# Altium integrated library Xilinx Aerospace and Defense.IntLib: 197 symbols (part 38 of 56)
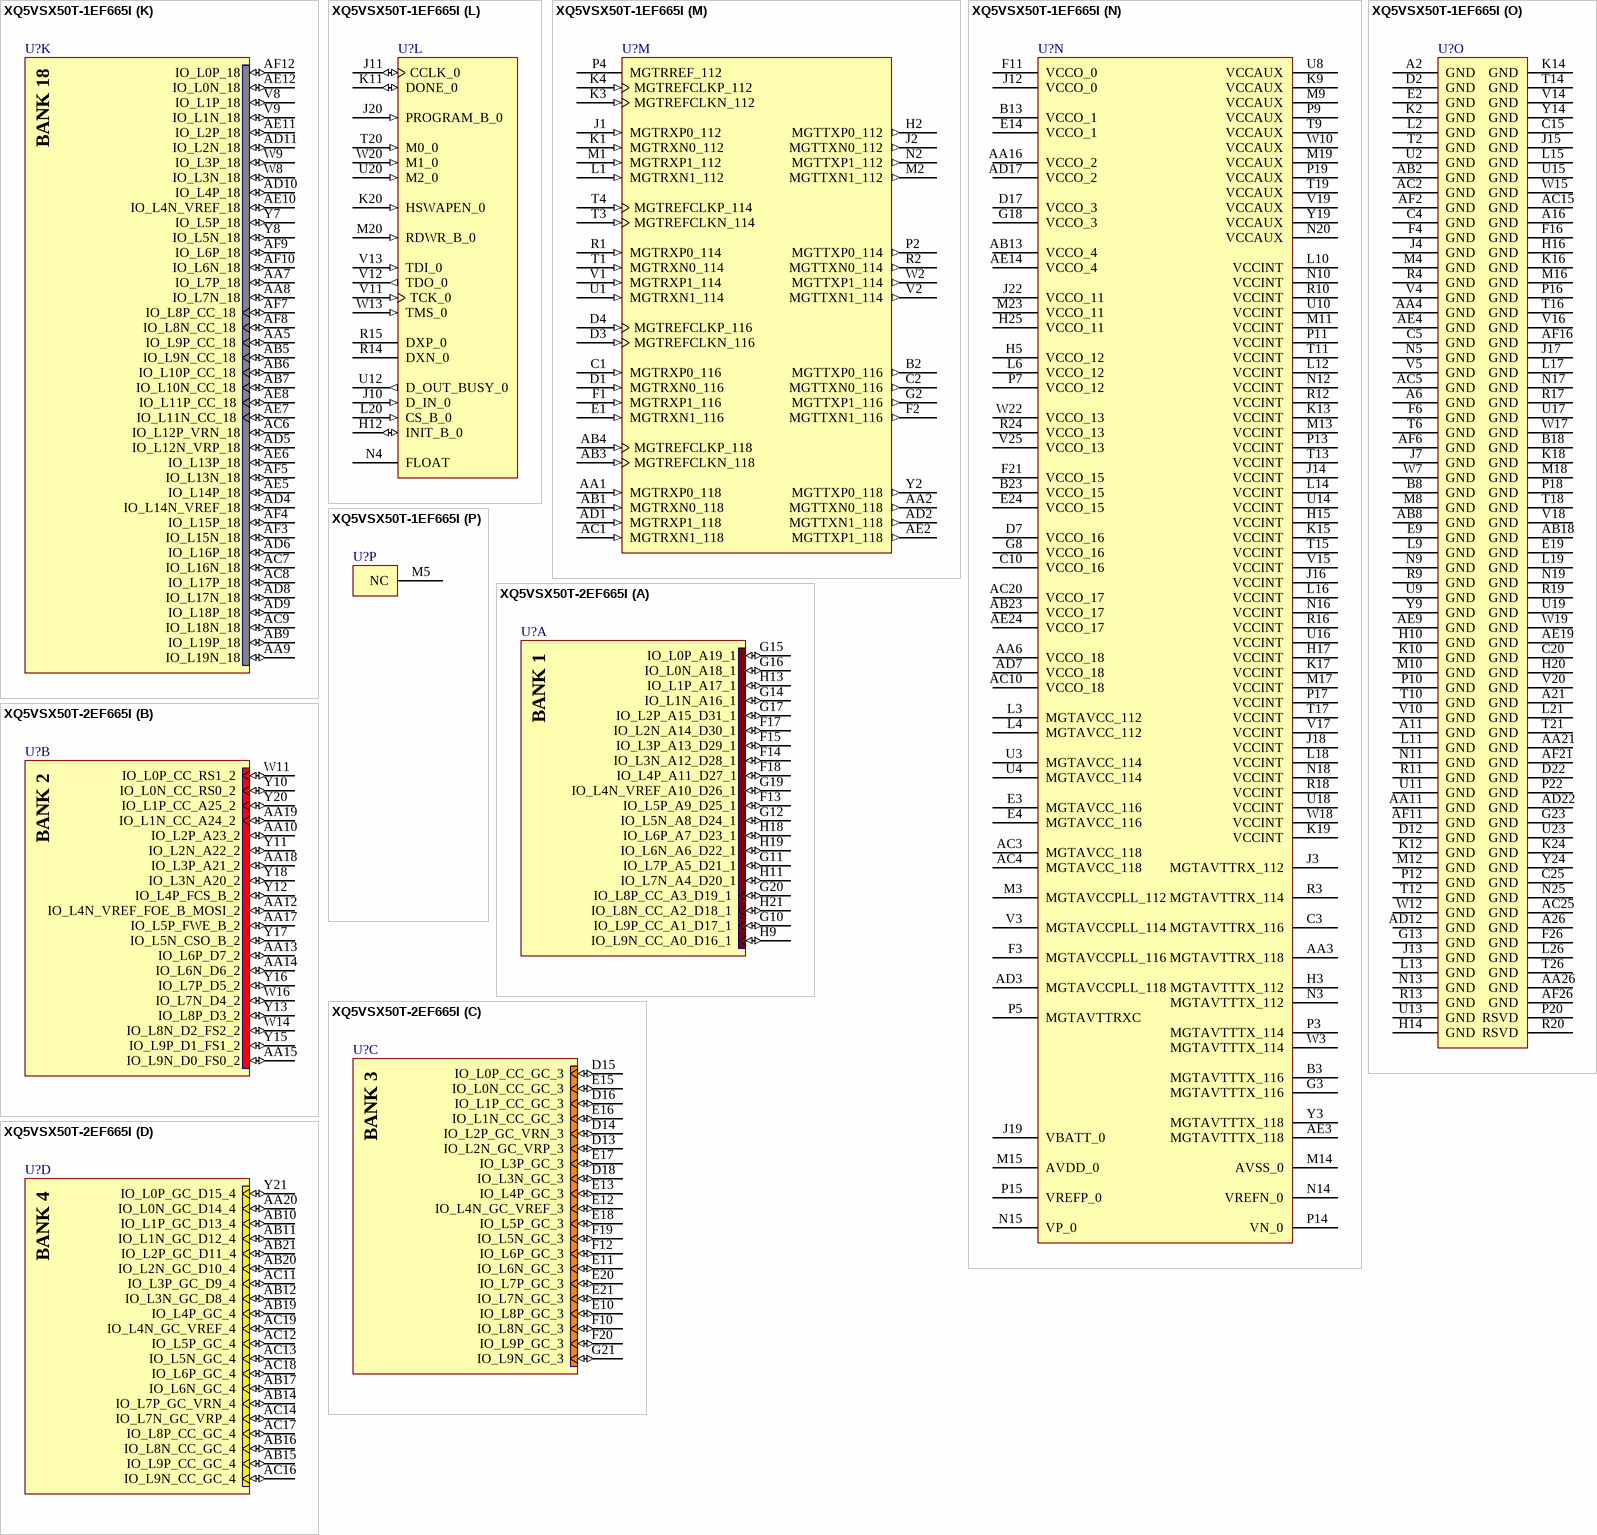
[diagram p347: symbols XQ5VSX50T-1EF665I to XQ5VSX50T-2EF665I]

## XQ5VSX50T-1EF665I
designator U?
Virtex-5Q SXT Platform FPGA, 360 User I/Os, 665-Ball EFBGA, Speed Grade 1, Industrial Grade; Note: Do not connect a single-ended clock to the N-side of clock capable pins (CC & GC pins).; Published: 17-Nov-2009; LatestRevisionDate: 01-Mar-2010; LatestRevisionNote: Updated to datasheet version 1.1 Dec-2009.; DatasheetVersion: ver1.1, Dec-2009; PackageVersion: ver1.1, Aug-2009; PackageReference: EF665; Publisher: Altium Limited; PackageDescription: 665-Ball Flip Chip Ball Grid Array (EF665); Code_JEDEC: MS-034-AAL-1 (Depopulated); ComponentLink1Description: Virtex-5Q Datasheet; ComponentLink1URL: http://www.xilinx.com/support/documentation/data_sheets/ds174.pdf; ComponentLink2Description: Pinout Specification; ComponentLink2URL: http://direct.xilinx.com/bvdocs/userguides/ug195.pdf; ComponentLink3Description: EF665 Package Drawing; ComponentLink3URL: http://www.xilinx.com/support/documentation/package_specs/ef665.pdf; ComponentLink4Description: Virtex-5Q Documents; ComponentLink4URL: http://www.xilinx.com/support/documentation/virtex-5q.htm; ComponentLink5Description: Xilinx.com Home; ComponentLink5URL: http://www.xilinx.com
footprint EF665 (BGA, 665-Leads, Body 27x27mm, Pitch 1mm)
signal-integrity model XQ5VSX50T_EF665 (Virtex-5Q)
part A pins: F13 IO_L5P_A9_D25_1 (io), F14 IO_L3N_A12_D28_1 (io), F15 IO_L3P_A13_D29_1 (io), F17 IO_L2N_A14_D30_1 (io), F18 IO_L4P_A11_D27_1 (io), G10 IO_L9P_CC_A1_D17_1 (io), G11 IO_L7P_A5_D21_1 (io), G12 IO_L5N_A8_D24_1 (io), G14 IO_L1N_A16_1 (io), G15 IO_L0P_A19_1 (io), G16 IO_L0N_A18_1 (io), G17 IO_L2P_A15_D31_1 (io), G19 IO_L4N_VREF_A10_D26_1 (io), G20 IO_L8P_CC_A3_D19_1 (io), H9 IO_L9N_CC_A0_D16_1 (io), H11 IO_L7N_A4_D20_1 (io), H13 IO_L1P_A17_1 (io), H18 IO_L6P_A7_D23_1 (io), H19 IO_L6N_A6_D22_1 (io), H21 IO_L8N_CC_A2_D18_1 (io)
part B pins: AA10 IO_L2P_A23_2 (io), AA12 IO_L4N_VREF_FOE_B_MOSI_2 (io), AA13 IO_L6P_D7_2 (io), AA14 IO_L6N_D6_2 (io), AA15 IO_L9N_D0_FS0_2 (io), AA17 IO_L5P_FWE_B_2 (io), AA18 IO_L3P_A21_2 (io), AA19 IO_L1N_CC_A24_2 (io), W11 IO_L0P_CC_RS1_2 (io), W14 IO_L8N_D2_FS2_2 (io), W16 IO_L7N_D4_2 (io), Y10 IO_L0N_CC_RS0_2 (io), Y11 IO_L2N_A22_2 (io), Y12 IO_L4P_FCS_B_2 (io), Y13 IO_L8P_D3_2 (io), Y15 IO_L9P_D1_FS1_2 (io), Y16 IO_L7P_D5_2 (io), Y17 IO_L5N_CSO_B_2 (io), Y18 IO_L3N_A20_2 (io), Y20 IO_L1P_CC_A25_2 (io)
part C pins: D13 IO_L2N_GC_VRP_3 (io), D14 IO_L2P_GC_VRN_3 (io), D15 IO_L0P_CC_GC_3 (io), D16 IO_L1P_CC_GC_3 (io), D18 IO_L3N_GC_3 (io), E10 IO_L8P_GC_3 (io), E11 IO_L6N_GC_3 (io), E12 IO_L4N_GC_VREF_3 (io), E13 IO_L4P_GC_3 (io), E15 IO_L0N_CC_GC_3 (io), E16 IO_L1N_CC_GC_3 (io), E17 IO_L3P_GC_3 (io), E18 IO_L5P_GC_3 (io), E20 IO_L7P_GC_3 (io), E21 IO_L7N_GC_3 (io), F10 IO_L8N_GC_3 (io), F12 IO_L6P_GC_3 (io), F19 IO_L5N_GC_3 (io), F20 IO_L9P_GC_3 (io), G21 IO_L9N_GC_3 (io)
part D pins: AA20 IO_L0N_GC_D14_4 (io), AB10 IO_L1P_GC_D13_4 (io), AB11 IO_L1N_GC_D12_4 (io), AB12 IO_L3N_GC_D8_4 (io), AB14 IO_L7P_GC_VRN_4 (io), AB15 IO_L9P_CC_GC_4 (io), AB16 IO_L8N_CC_GC_4 (io), AB17 IO_L6N_GC_4 (io), AB19 IO_L4P_GC_4 (io), AB20 IO_L2N_GC_D10_4 (io), AB21 IO_L2P_GC_D11_4 (io), AC11 IO_L3P_GC_D9_4 (io), AC12 IO_L5P_GC_4 (io), AC13 IO_L5N_GC_4 (io), AC14 IO_L7N_GC_VRP_4 (io), AC16 IO_L9N_CC_GC_4 (io), AC17 IO_L8P_CC_GC_4 (io), AC18 IO_L6P_GC_4 (io), AC19 IO_L4N_GC_VREF_4 (io), Y21 IO_L0P_GC_D15_4 (io)
part E pins: E22 IO_L4N_VREF_11 (io), E23 IO_L4P_11 (io), E25 IO_L0N_11 (io), E26 IO_L0P_11 (io), F22 IO_L5N_11 (io), F23 IO_L5P_11 (io), F24 IO_L3P_11 (io), F25 IO_L1P_11 (io), G22 IO_L6P_11 (io), G24 IO_L3N_11 (io), G25 IO_L2N_11 (io), G26 IO_L1N_11 (io), H22 IO_L6N_11 (io), H23 IO_L7P_11 (io), H24 IO_L12P_VRN_11 (io), H26 IO_L2P_11 (io), J21 IO_L8P_CC_11 (io), J23 IO_L7N_11 (io), J24 IO_L12N_VRP_11 (io), J25 IO_L13P_11 (io), J26 IO_L13N_11 (io), K21 IO_L8N_CC_11 (io), K22 IO_L9P_CC_11 (io), K23 IO_L9N_CC_11 (io), K25 IO_L15N_SM13N_11 (io), K26 IO_L14P_11 (io), L22 IO_L10N_CC_SM15N_11 (io), L23 IO_L10P_CC_SM15P_11 (io), L24 IO_L15P_SM13P_11 (io), L25 IO_L14N_VREF_11 (io), M21 IO_L11P_CC_SM14P_11 (io), M22 IO_L19N_SM9N_11 (io), M24 IO_L17N_SM11N_11 (io), M25 IO_L17P_SM11P_11 (io), M26 IO_L16N_SM12N_11 (io), N21 IO_L11N_CC_SM14N_11 (io), N22 IO_L19P_SM9P_11 (io), N23 IO_L18N_SM10N_11 (io), N24 IO_L18P_SM10P_11 (io), N26 IO_L16P_SM12P_11 (io)
part F pins: F5 IO_L3N_12 (io), G4 IO_L5P_12 (io), G5 IO_L3P_12 (io), G6 IO_L1P_12 (io), H4 IO_L5N_12 (io), H6 IO_L1N_12 (io), J5 IO_L7P_12 (io), J6 IO_L7N_12 (io), K5 IO_L9P_CC_12 (io), K6 IO_L10P_CC_12 (io), K7 IO_L10N_CC_12 (io), K8 IO_L12P_VRN_12 (io), L5 IO_L9N_CC_12 (io), L7 IO_L12N_VRP_12 (io), L8 IO_L14N_VREF_12 (io), M6 IO_L17P_12 (io), M7 IO_L14P_12 (io), N6 IO_L16N_12 (io), N7 IO_L17N_12 (io), N8 IO_L18P_12 (io), P6 IO_L16P_12 (io), P8 IO_L18N_12 (io), R5 IO_L13N_12 (io), R6 IO_L15P_12 (io), R7 IO_L19N_12 (io), R8 IO_L19P_12 (io), T5 IO_L13P_12 (io), T7 IO_L15N_12 (io), T8 IO_L8N_CC_12 (io), U5 IO_L11N_CC_12 (io), U6 IO_L11P_CC_12 (io), U7 IO_L8P_CC_12 (io), V6 IO_L6P_12 (io), V7 IO_L6N_12 (io), W4 IO_L2N_12 (io), W5 IO_L4P_12 (io), W6 IO_L4N_VREF_12 (io), Y4 IO_L2P_12 (io), Y5 IO_L0N_12 (io), Y6 IO_L0P_12 (io)
part G pins: AA22 IO_L10P_CC_13 (io), AA23 IO_L15N_13 (io), AA24 IO_L14N_VREF_13 (io), AA25 IO_L13P_13 (io), AB24 IO_L15P_13 (io), AB25 IO_L14P_13 (io), AB26 IO_L13N_13 (io), P21 IO_L16P_13 (io), P23 IO_L2N_SM6N_13 (io), P24 IO_L2P_SM6P_13 (io), P25 IO_L1P_SM7P_13 (io), P26 IO_L0P_SM8P_13 (io), R21 IO_L16N_13 (io), R22 IO_L3N_SM5N_13 (io), R23 IO_L3P_SM5P_13 (io), R25 IO_L1N_SM7N_13 (io), R26 IO_L0N_SM8N_13 (io), T22 IO_L17P_13 (io), T23 IO_L6N_SM3N_13 (io), T24 IO_L6P_SM3P_13 (io), T25 IO_L5N_SM4N_13 (io), U21 IO_L18P_13 (io), U22 IO_L17N_13 (io), U24 IO_L7P_SM2P_13 (io), U25 IO_L5P_SM4P_13 (io), U26 IO_L4P_13 (io), V21 IO_L19P_13 (io), V22 IO_L18N_13 (io), V23 IO_L9N_CC_SM0N_13 (io), V24 IO_L7N_SM2N_13 (io), V26 IO_L4N_VREF_13 (io), W21 IO_L19N_13 (io), W23 IO_L11N_CC_13 (io), W24 IO_L9P_CC_SM0P_13 (io), W25 IO_L8N_CC_SM1N_13 (io), W26 IO_L8P_CC_SM1P_13 (io), Y22 IO_L10N_CC_13 (io), Y23 IO_L11P_CC_13 (io), Y25 IO_L12N_VRP_13 (io), Y26 IO_L12P_VRN_13 (io)
part H pins: A13 IO_L1N_15 (io), A14 IO_L2P_15 (io), A15 IO_L2N_15 (io), A17 IO_L5N_15 (io), A18 IO_L6P_15 (io), A19 IO_L6N_15 (io), A20 IO_L8P_CC_15 (io), A22 IO_L13N_15 (io), A23 IO_L14P_15 (io), A24 IO_L14N_VREF_15 (io), A25 IO_L17N_15 (io), B14 IO_L1P_15 (io), B15 IO_L3P_15 (io), B16 IO_L4P_15 (io), B17 IO_L5P_15 (io), B19 IO_L7P_15 (io), B20 IO_L8N_CC_15 (io), B21 IO_L11P_CC_15 (io), B22 IO_L13P_15 (io), B24 IO_L15P_15 (io), B25 IO_L17P_15 (io), B26 IO_L18P_15 (io), C13 IO_L0P_15 (io), C14 IO_L0N_15 (io), C16 IO_L3N_15 (io), C17 IO_L4N_VREF_15 (io), C18 IO_L7N_15 (io), C19 IO_L9P_CC_15 (io), C21 IO_L11N_CC_15 (io), C22 IO_L12N_VRP_15 (io), C23 IO_L15N_15 (io), C24 IO_L16N_15 (io), C26 IO_L18N_15 (io), D19 IO_L9N_CC_15 (io), D20 IO_L10N_CC_15 (io), D21 IO_L10P_CC_15 (io), D23 IO_L12P_VRN_15 (io), D24 IO_L16P_15 (io), D25 IO_L19N_15 (io), D26 IO_L19P_15 (io)
part I pins: A3 IO_L14N_VREF_16 (io), A4 IO_L14P_16 (io), A5 IO_L12N_VRP_16 (io), A7 IO_L10P_CC_16 (io), A8 IO_L4N_VREF_16 (io), A9 IO_L4P_16 (io), A10 IO_L13N_16 (io), A12 IO_L15N_16 (io), B4 IO_L16P_16 (io), B5 IO_L16N_16 (io), B6 IO_L12P_VRN_16 (io), B7 IO_L10N_CC_16 (io), B9 IO_L6P_16 (io), B10 IO_L13P_16 (io), B11 IO_L15P_16 (io), B12 IO_L17P_16 (io), C6 IO_L9N_CC_16 (io), C7 IO_L9P_CC_16 (io), C8 IO_L6N_16 (io), C9 IO_L8P_CC_16 (io), C11 IO_L19P_16 (io), C12 IO_L17N_16 (io), D5 IO_L18P_16 (io), D6 IO_L7N_16 (io), D8 IO_L8N_CC_16 (io), D9 IO_L11P_CC_16 (io), D10 IO_L11N_CC_16 (io), D11 IO_L19N_16 (io), E5 IO_L18N_16 (io), E6 IO_L7P_16 (io), E7 IO_L5N_16 (io), E8 IO_L5P_16 (io), F7 IO_L1P_16 (io), F8 IO_L1N_16 (io), F9 IO_L2P_16 (io), G7 IO_L0N_16 (io), G9 IO_L2N_16 (io), H7 IO_L0P_16 (io), H8 IO_L3P_16 (io), J8 IO_L3N_16 (io)
part J pins: AB22 IO_L7N_17 (io), AC21 IO_L11P_CC_17 (io), AC22 IO_L7P_17 (io), AC23 IO_L6N_17 (io), AC24 IO_L6P_17 (io), AC26 IO_L0P_17 (io), AD13 IO_L19P_17 (io), AD14 IO_L19N_17 (io), AD15 IO_L16P_17 (io), AD16 IO_L15N_17 (io), AD18 IO_L13N_17 (io), AD19 IO_L10P_CC_17 (io), AD20 IO_L10N_CC_17 (io), AD21 IO_L11N_CC_17 (io), AD23 IO_L5N_17 (io), AD24 IO_L1N_17 (io), AD25 IO_L1P_17 (io), AD26 IO_L0N_17 (io), AE13 IO_L18N_17 (io), AE15 IO_L16N_17 (io), AE16 IO_L15P_17 (io), AE17 IO_L14P_17 (io), AE18 IO_L13P_17 (io), AE20 IO_L9N_CC_17 (io), AE21 IO_L8N_CC_17 (io), AE22 IO_L5P_17 (io), AE23 IO_L4N_VREF_17 (io), AE25 IO_L2P_17 (io), AE26 IO_L2N_17 (io), AF13 IO_L18P_17 (io), AF14 IO_L17N_17 (io), AF15 IO_L17P_17 (io), AF17 IO_L14N_VREF_17 (io), AF18 IO_L12N_VRP_17 (io), AF19 IO_L12P_VRN_17 (io), AF20 IO_L9P_CC_17 (io), AF22 IO_L8P_CC_17 (io), AF23 IO_L4P_17 (io), AF24 IO_L3N_17 (io), AF25 IO_L3P_17 (io)
part K pins: AA5 IO_L9P_CC_18 (io), AA7 IO_L7P_18 (io), AA8 IO_L7N_18 (io), AA9 IO_L19N_18 (io), AB5 IO_L9N_CC_18 (io), AB6 IO_L10P_CC_18 (io), AB7 IO_L10N_CC_18 (io), AB9 IO_L19P_18 (io), AC6 IO_L12P_VRN_18 (io), AC7 IO_L16N_18 (io), AC8 IO_L17P_18 (io), AC9 IO_L18N_18 (io), AD4 IO_L14N_VREF_18 (io), AD5 IO_L12N_VRP_18 (io), AD6 IO_L16P_18 (io), AD8 IO_L17N_18 (io), AD9 IO_L18P_18 (io), AD10 IO_L4P_18 (io), AD11 IO_L2N_18 (io), AE5 IO_L14P_18 (io), AE6 IO_L13P_18 (io), AE7 IO_L11N_CC_18 (io), AE8 IO_L11P_CC_18 (io), AE10 IO_L4N_VREF_18 (io), AE11 IO_L2P_18 (io), AE12 IO_L0N_18 (io), AF3 IO_L15N_18 (io), AF4 IO_L15P_18 (io), AF5 IO_L13N_18 (io), AF7 IO_L8P_CC_18 (io), AF8 IO_L8N_CC_18 (io), AF9 IO_L6P_18 (io), AF10 IO_L6N_18 (io), AF12 IO_L0P_18 (io), V8 IO_L1P_18 (io), V9 IO_L1N_18 (io), W8 IO_L3N_18 (io), W9 IO_L3P_18 (io), Y7 IO_L5P_18 (io), Y8 IO_L5N_18 (io)
part L pins: H12 INIT_B_0 (io), J10 D_IN_0 (in), J11 CCLK_0 (io), J20 PROGRAM_B_0 (in), K11 DONE_0 (io), K20 HSWAPEN_0 (in), L20 CS_B_0 (in), M20 RDWR_B_0 (in), N4 FLOAT, R14 DXN_0, R15 DXP_0, T20 M0_0 (in), U12 D_OUT_BUSY_0 (out), U20 M2_0 (in), V11 TCK_0 (in), V12 TDO_0 (out), V13 TDI_0 (in), W13 TMS_0 (in), W20 M1_0 (in)
part M pins: AA1 MGTRXP0_118 (in), AA2 MGTTXN0_118 (out), AB1 MGTRXN0_118 (in), AB3 MGTREFCLKN_118 (in), AB4 MGTREFCLKP_118 (in), AC1 MGTRXN1_118 (in), AD1 MGTRXP1_118 (in), AD2 MGTTXN1_118 (out), AE2 MGTTXP1_118 (out), B2 MGTTXP0_116 (out), C1 MGTRXP0_116 (in), C2 MGTTXN0_116 (out), D1 MGTRXN0_116 (in), D3 MGTREFCLKN_116 (in), D4 MGTREFCLKP_116 (in), E1 MGTRXN1_116 (in), F1 MGTRXP1_116 (in), F2 MGTTXN1_116 (out), G2 MGTTXP1_116 (out), H2 MGTTXP0_112 (out), J1 MGTRXP0_112 (in), J2 MGTTXN0_112 (out), K1 MGTRXN0_112 (in), K3 MGTREFCLKN_112 (in), K4 MGTREFCLKP_112 (in), L1 MGTRXN1_112 (in), M1 MGTRXP1_112 (in), M2 MGTTXN1_112 (out), N2 MGTTXP1_112 (out), P2 MGTTXP0_114 (out), P4 MGTRREF_112, R1 MGTRXP0_114 (in), R2 MGTTXN0_114 (out), T1 MGTRXN0_114 (in), T3 MGTREFCLKN_114 (in), T4 MGTREFCLKP_114 (in), U1 MGTRXN1_114 (in), V1 MGTRXP1_114 (in), V2 MGTTXN1_114 (out), W2 MGTTXP1_114 (out), Y2 MGTTXP0_118 (out)
part N pins: AA3 MGTAVTTRX_118 (power), AA6 VCCO_18 (power), AA16 VCCO_2 (power), AB13 VCCO_4 (power), AB23 VCCO_17 (power), AC3 MGTAVCC_118 (power), AC4 MGTAVCC_118 (power), AC10 VCCO_18 (power), AC20 VCCO_17 (power), AD3 MGTAVCCPLL_118 (power), AD7 VCCO_18 (power), AD17 VCCO_2 (power), AE3 MGTAVTTTX_118 (power), AE14 VCCO_4 (power), AE24 VCCO_17 (power), B3 MGTAVTTTX_116 (power), B13 VCCO_1 (power), B23 VCCO_15 (power), C3 MGTAVTTRX_116 (power), C10 VCCO_16 (power), D7 VCCO_16 (power), D17 VCCO_3 (power), E3 MGTAVCC_116 (power), E4 MGTAVCC_116 (power), E14 VCCO_1 (power), E24 VCCO_15 (power), F3 MGTAVCCPLL_116 (power), F11 VCCO_0 (power), F21 VCCO_15 (power), G3 MGTAVTTTX_116 (power), G8 VCCO_16 (power), G18 VCCO_3 (power), H3 MGTAVTTTX_112 (power), H5 VCCO_12 (power), H15 VCCINT (power), H17 VCCINT (power), H25 VCCO_11 (power), J3 MGTAVTTRX_112 (power), J12 VCCO_0 (power), J14 VCCINT (power), J16 VCCINT (power), J18 VCCINT (power), J19 VBATT_0 (power), J22 VCCO_11 (power), K9 VCCAUX (power), K13 VCCINT (power), K15 VCCINT (power), K17 VCCINT (power), K19 VCCINT (power), L3 MGTAVCC_112 (power), L4 MGTAVCC_112 (power), L6 VCCO_12 (power), L10 VCCINT (power), L12 VCCINT (power), L14 VCCINT (power), L16 VCCINT (power), L18 VCCINT (power), M3 MGTAVCCPLL_112 (power), M9 VCCAUX (power), M11 VCCINT (power), M13 VCCINT (power), M14 AVSS_0 (power), M15 AVDD_0 (power), M17 VCCINT (power), M19 VCCAUX (power), M23 VCCO_11 (power), N3 MGTAVTTTX_112 (power), N10 VCCINT (power), N12 VCCINT (power), N14 VREFN_0 (power), N15 VP_0 (power), N16 VCCINT (power), N18 VCCINT (power), N20 VCCAUX (power), P3 MGTAVTTTX_114 (power), P5 MGTAVTTRXC (power), P7 VCCO_12 (power), P9 VCCAUX (power), P11 VCCINT (power), P13 VCCINT (power), P14 VN_0 (power), P15 VREFP_0 (power), P17 VCCINT (power), P19 VCCAUX (power), R3 MGTAVTTRX_114 (power), R10 VCCINT (power), R12 VCCINT (power), R16 VCCINT (power), R18 VCCINT (power), R24 VCCO_13 (power), T9 VCCAUX (power), T11 VCCINT (power), T13 VCCINT (power), T15 VCCINT (power), T17 VCCINT (power), T19 VCCAUX (power), U3 MGTAVCC_114 (power), U4 MGTAVCC_114 (power), U8 VCCAUX (power), U10 VCCINT (power), U14 VCCINT (power), U16 VCCINT (power), U18 VCCINT (power), V3 MGTAVCCPLL_114 (power), V15 VCCINT (power), V17 VCCINT (power), V19 VCCAUX (power), V25 VCCO_13 (power), W3 MGTAVTTTX_114 (power), W10 VCCAUX (power), W18 VCCINT (power), W22 VCCO_13 (power), Y3 MGTAVTTTX_118 (power), Y19 VCCAUX (power)
part O pins: A2 GND (power), A6 GND (power), A11 GND (power), A16 GND (power), A21 GND (power), A26 GND (power), AA4 GND (power), AA11 GND (power), AA21 GND (power), AA26 GND (power), AB2 GND (power), AB8 GND (power), AB18 GND (power), AC2 GND (power), AC5 GND (power), AC15 GND (power), AC25 GND (power), AD12 GND (power), AD22 GND (power), AE4 GND (power), AE9 GND (power), AE19 GND (power), AF2 GND (power), AF6 GND (power), AF11 GND (power), AF16 GND (power), AF21 GND (power), AF26 GND (power), B8 GND (power), B18 GND (power), C4 GND (power), C5 GND (power), C15 GND (power), C20 GND (power), C25 GND (power), D2 GND (power), D12 GND (power), D22 GND (power), E2 GND (power), E9 GND (power), E19 GND (power), F4 GND (power), F6 GND (power), F16 GND (power), F26 GND (power), G13 GND (power), G23 GND (power), H10 GND (power), H14 GND (power), H16 GND (power), H20 GND (power), J4 GND (power), J7 GND (power), J13 GND (power), J15 GND (power), J17 GND (power), K2 GND (power), K10 GND (power), K12 GND (power), K14 GND (power), K16 GND (power), K18 GND (power), K24 GND (power), L2 GND (power), L9 GND (power), L11 GND (power), L13 GND (power), L15 GND (power), L17 GND (power), L19 GND (power), L21 GND (power), L26 GND (power), M4 GND (power), M8 GND (power), M10 GND (power), M12 GND (power), M16 GND (power), M18 GND (power), N5 GND (power), N9 GND (power), N11 GND (power), N13 GND (power), N17 GND (power), N19 GND (power), N25 GND (power), P10 GND (power), P12 GND (power), P16 GND (power), P18 GND (power), P20 RSVD, P22 GND (power), R4 GND (power), R9 GND (power), R11 GND (power), R13 GND (power), R17 GND (power), R19 GND (power), R20 RSVD, T2 GND (power), T6 GND (power), T10 GND (power), T12 GND (power), T14 GND (power), T16 GND (power), T18 GND (power), T21 GND (power), T26 GND (power), U2 GND (power), U9 GND (power), U11 GND (power), U13 GND (power), U15 GND (power), U17 GND (power), U19 GND (power), U23 GND (power), V4 GND (power), V5 GND (power), V10 GND (power), V14 GND (power), V16 GND (power), V18 GND (power), V20 GND (power), W7 GND (power), W12 GND (power), W15 GND (power), W17 GND (power), W19 GND (power), Y9 GND (power), Y14 GND (power), Y24 GND (power)
part P pins: M5 NC
part A text: BANK 1
part B text: BANK 2
part C text: BANK 3
part D text: BANK 4
part E text: BANK 11
part F text: BANK 12
part G text: BANK 13
part H text: BANK 15
part I text: BANK 16
part J text: BANK 17
part K text: BANK 18

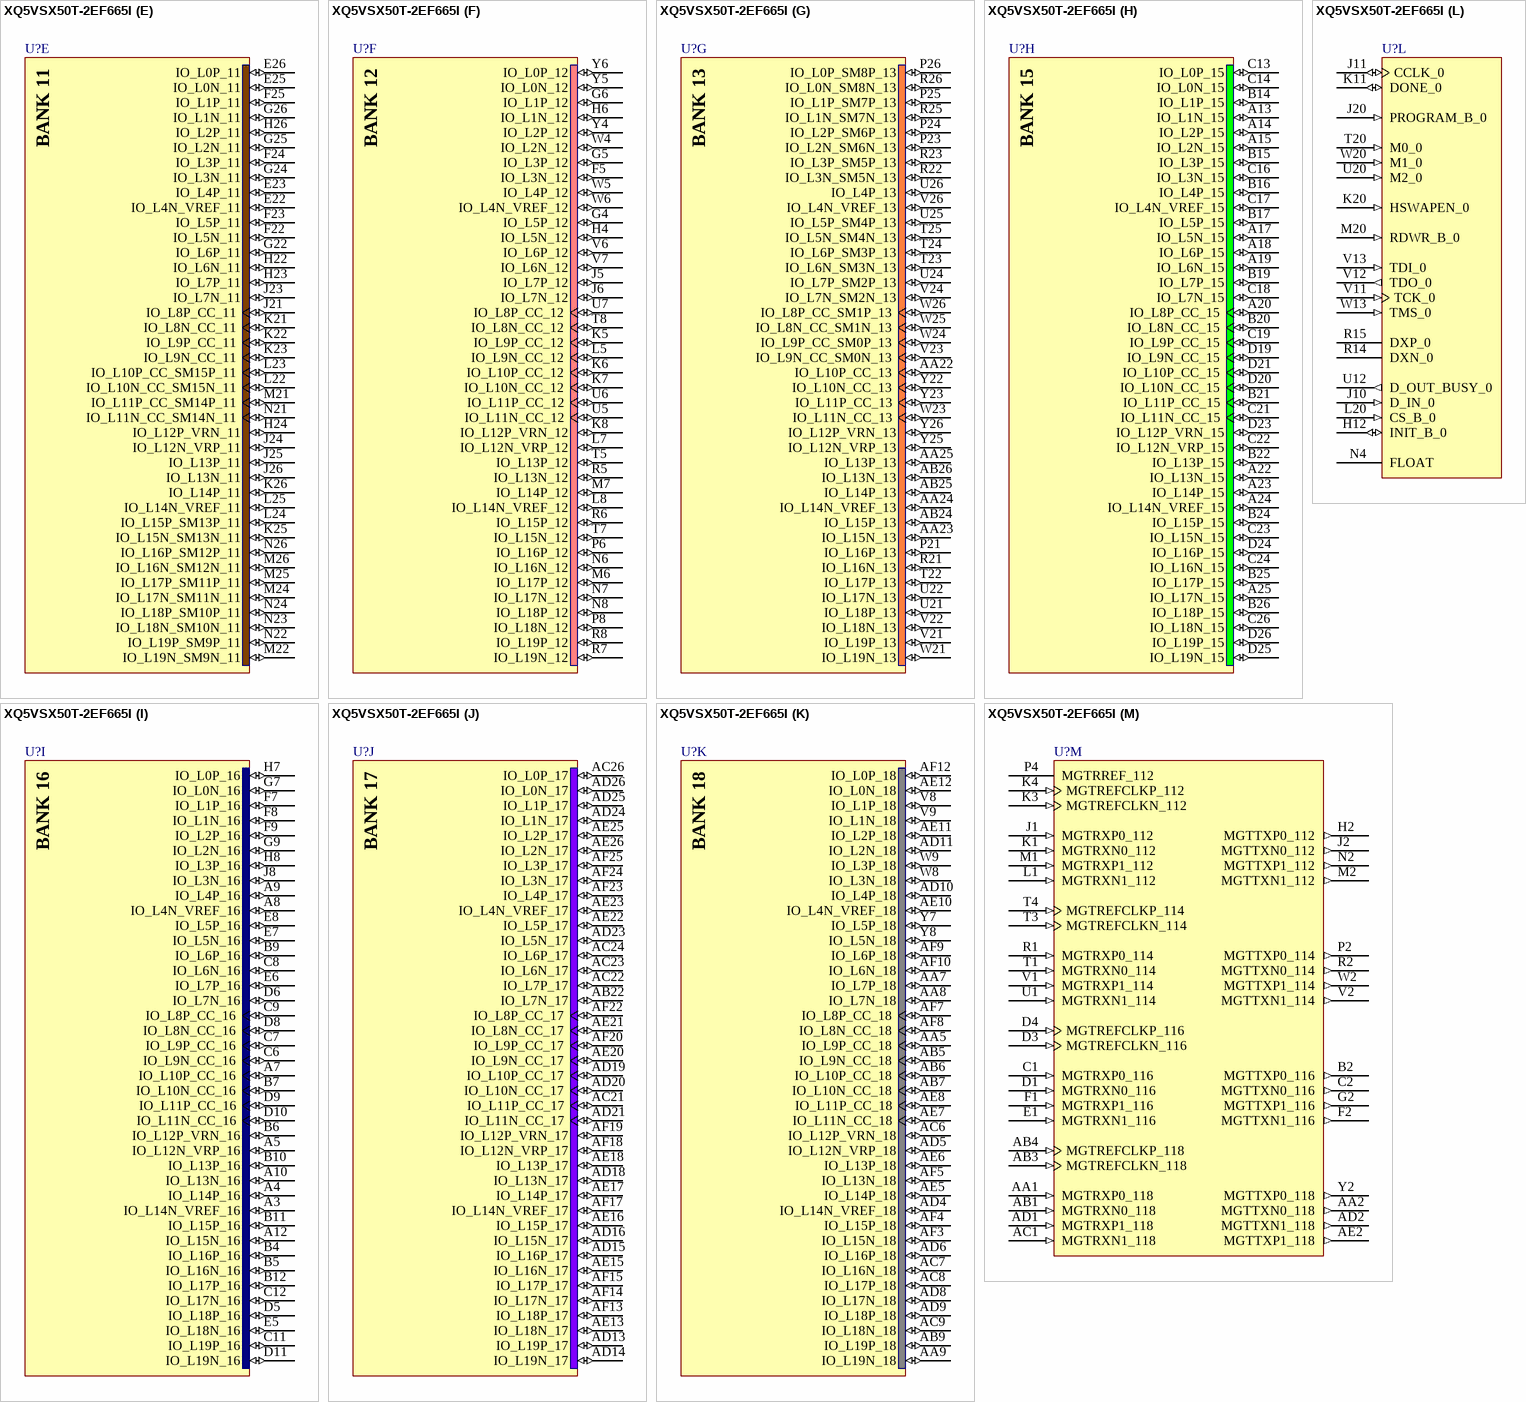
[diagram p139: symbol XQ5VSX50T-2EF665I]

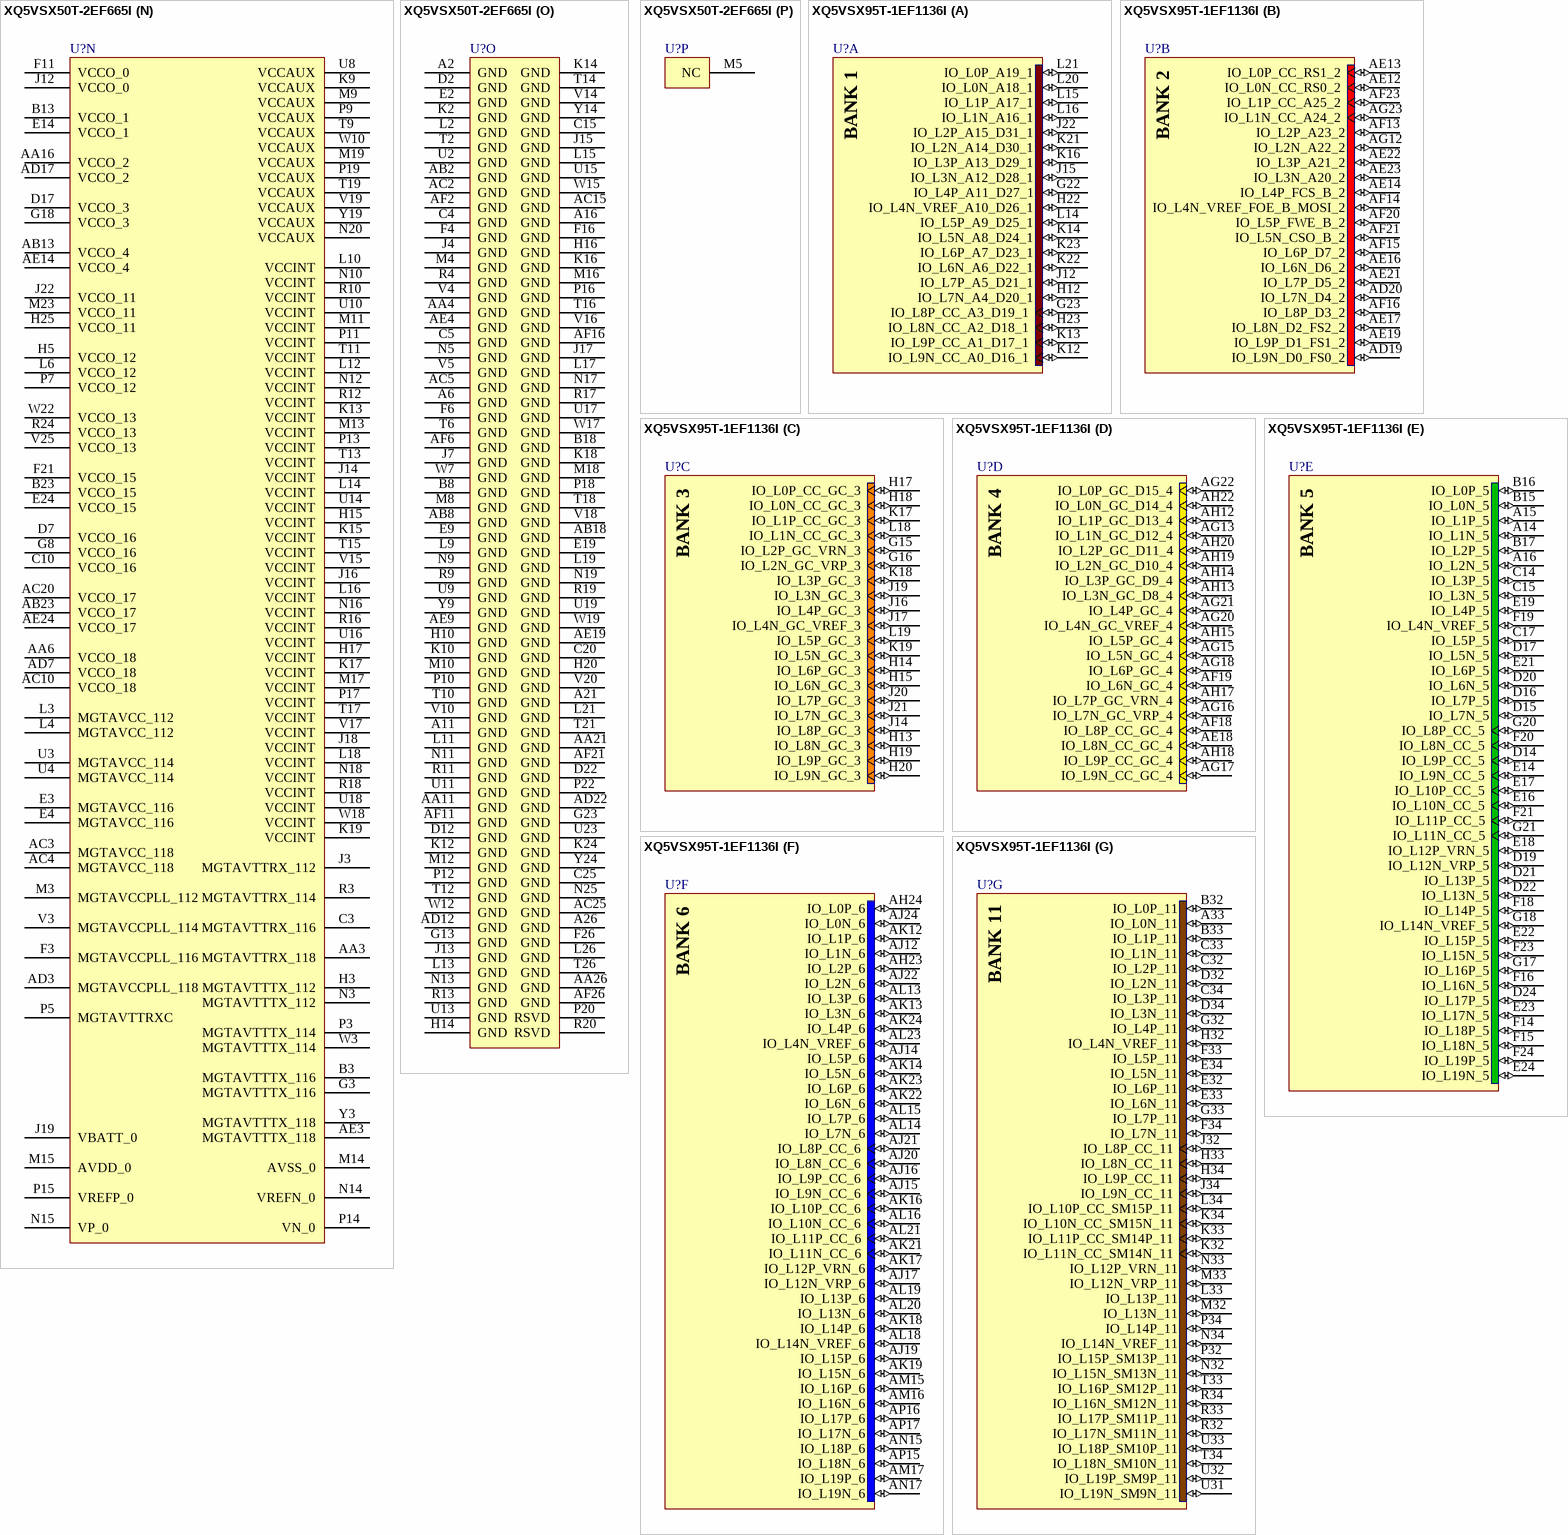
[diagram p140: symbols XQ5VSX50T-2EF665I to XQ5VSX95T-1EF1136I]

## XQ5VSX50T-2EF665I
designator U?
Virtex-5Q SXT Platform FPGA, 360 User I/Os, 665-Ball EFBGA, Speed Grade 2, Industrial Grade; ComponentAvailability: Confirm availability with manufacturer.; Note: Do not connect a single-ended clock to the N-side of clock capable pins (CC & GC pins).; Published: 17-Nov-2009; LatestRevisionDate: 01-Mar-2010; LatestRevisionNote: Updated to datasheet version 1.1 Dec-2009.; DatasheetVersion: ver1.1, Dec-2009; PackageVersion: ver1.1, Aug-2009; PackageReference: EF665; Publisher: Altium Limited; PackageDescription: 665-Ball Flip Chip Ball Grid Array (EF665); Code_JEDEC: MS-034-AAL-1 (Depopulated); ComponentLink1Description: Virtex-5Q Datasheet; ComponentLink1URL: http://www.xilinx.com/support/documentation/data_sheets/ds174.pdf; ComponentLink2Description: Pinout Specification; ComponentLink2URL: http://direct.xilinx.com/bvdocs/userguides/ug195.pdf; ComponentLink3Description: EF665 Package Drawing; ComponentLink3URL: http://www.xilinx.com/support/documentation/package_specs/ef665.pdf; ComponentLink4Description: Virtex-5Q Documents; ComponentLink4URL: http://www.xilinx.com/support/documentation/virtex-5q.htm; ComponentLink5Description: Xilinx.com Home; ComponentLink5URL: http://www.xilinx.com
footprint EF665 (BGA, 665-Leads, Body 27x27mm, Pitch 1mm)
signal-integrity model XQ5VSX50T_EF665 (Virtex-5Q)
part A pins: F13 IO_L5P_A9_D25_1 (io), F14 IO_L3N_A12_D28_1 (io), F15 IO_L3P_A13_D29_1 (io), F17 IO_L2N_A14_D30_1 (io), F18 IO_L4P_A11_D27_1 (io), G10 IO_L9P_CC_A1_D17_1 (io), G11 IO_L7P_A5_D21_1 (io), G12 IO_L5N_A8_D24_1 (io), G14 IO_L1N_A16_1 (io), G15 IO_L0P_A19_1 (io), G16 IO_L0N_A18_1 (io), G17 IO_L2P_A15_D31_1 (io), G19 IO_L4N_VREF_A10_D26_1 (io), G20 IO_L8P_CC_A3_D19_1 (io), H9 IO_L9N_CC_A0_D16_1 (io), H11 IO_L7N_A4_D20_1 (io), H13 IO_L1P_A17_1 (io), H18 IO_L6P_A7_D23_1 (io), H19 IO_L6N_A6_D22_1 (io), H21 IO_L8N_CC_A2_D18_1 (io)
part B pins: AA10 IO_L2P_A23_2 (io), AA12 IO_L4N_VREF_FOE_B_MOSI_2 (io), AA13 IO_L6P_D7_2 (io), AA14 IO_L6N_D6_2 (io), AA15 IO_L9N_D0_FS0_2 (io), AA17 IO_L5P_FWE_B_2 (io), AA18 IO_L3P_A21_2 (io), AA19 IO_L1N_CC_A24_2 (io), W11 IO_L0P_CC_RS1_2 (io), W14 IO_L8N_D2_FS2_2 (io), W16 IO_L7N_D4_2 (io), Y10 IO_L0N_CC_RS0_2 (io), Y11 IO_L2N_A22_2 (io), Y12 IO_L4P_FCS_B_2 (io), Y13 IO_L8P_D3_2 (io), Y15 IO_L9P_D1_FS1_2 (io), Y16 IO_L7P_D5_2 (io), Y17 IO_L5N_CSO_B_2 (io), Y18 IO_L3N_A20_2 (io), Y20 IO_L1P_CC_A25_2 (io)
part C pins: D13 IO_L2N_GC_VRP_3 (io), D14 IO_L2P_GC_VRN_3 (io), D15 IO_L0P_CC_GC_3 (io), D16 IO_L1P_CC_GC_3 (io), D18 IO_L3N_GC_3 (io), E10 IO_L8P_GC_3 (io), E11 IO_L6N_GC_3 (io), E12 IO_L4N_GC_VREF_3 (io), E13 IO_L4P_GC_3 (io), E15 IO_L0N_CC_GC_3 (io), E16 IO_L1N_CC_GC_3 (io), E17 IO_L3P_GC_3 (io), E18 IO_L5P_GC_3 (io), E20 IO_L7P_GC_3 (io), E21 IO_L7N_GC_3 (io), F10 IO_L8N_GC_3 (io), F12 IO_L6P_GC_3 (io), F19 IO_L5N_GC_3 (io), F20 IO_L9P_GC_3 (io), G21 IO_L9N_GC_3 (io)
part D pins: AA20 IO_L0N_GC_D14_4 (io), AB10 IO_L1P_GC_D13_4 (io), AB11 IO_L1N_GC_D12_4 (io), AB12 IO_L3N_GC_D8_4 (io), AB14 IO_L7P_GC_VRN_4 (io), AB15 IO_L9P_CC_GC_4 (io), AB16 IO_L8N_CC_GC_4 (io), AB17 IO_L6N_GC_4 (io), AB19 IO_L4P_GC_4 (io), AB20 IO_L2N_GC_D10_4 (io), AB21 IO_L2P_GC_D11_4 (io), AC11 IO_L3P_GC_D9_4 (io), AC12 IO_L5P_GC_4 (io), AC13 IO_L5N_GC_4 (io), AC14 IO_L7N_GC_VRP_4 (io), AC16 IO_L9N_CC_GC_4 (io), AC17 IO_L8P_CC_GC_4 (io), AC18 IO_L6P_GC_4 (io), AC19 IO_L4N_GC_VREF_4 (io), Y21 IO_L0P_GC_D15_4 (io)
part E pins: E22 IO_L4N_VREF_11 (io), E23 IO_L4P_11 (io), E25 IO_L0N_11 (io), E26 IO_L0P_11 (io), F22 IO_L5N_11 (io), F23 IO_L5P_11 (io), F24 IO_L3P_11 (io), F25 IO_L1P_11 (io), G22 IO_L6P_11 (io), G24 IO_L3N_11 (io), G25 IO_L2N_11 (io), G26 IO_L1N_11 (io), H22 IO_L6N_11 (io), H23 IO_L7P_11 (io), H24 IO_L12P_VRN_11 (io), H26 IO_L2P_11 (io), J21 IO_L8P_CC_11 (io), J23 IO_L7N_11 (io), J24 IO_L12N_VRP_11 (io), J25 IO_L13P_11 (io), J26 IO_L13N_11 (io), K21 IO_L8N_CC_11 (io), K22 IO_L9P_CC_11 (io), K23 IO_L9N_CC_11 (io), K25 IO_L15N_SM13N_11 (io), K26 IO_L14P_11 (io), L22 IO_L10N_CC_SM15N_11 (io), L23 IO_L10P_CC_SM15P_11 (io), L24 IO_L15P_SM13P_11 (io), L25 IO_L14N_VREF_11 (io), M21 IO_L11P_CC_SM14P_11 (io), M22 IO_L19N_SM9N_11 (io), M24 IO_L17N_SM11N_11 (io), M25 IO_L17P_SM11P_11 (io), M26 IO_L16N_SM12N_11 (io), N21 IO_L11N_CC_SM14N_11 (io), N22 IO_L19P_SM9P_11 (io), N23 IO_L18N_SM10N_11 (io), N24 IO_L18P_SM10P_11 (io), N26 IO_L16P_SM12P_11 (io)
part F pins: F5 IO_L3N_12 (io), G4 IO_L5P_12 (io), G5 IO_L3P_12 (io), G6 IO_L1P_12 (io), H4 IO_L5N_12 (io), H6 IO_L1N_12 (io), J5 IO_L7P_12 (io), J6 IO_L7N_12 (io), K5 IO_L9P_CC_12 (io), K6 IO_L10P_CC_12 (io), K7 IO_L10N_CC_12 (io), K8 IO_L12P_VRN_12 (io), L5 IO_L9N_CC_12 (io), L7 IO_L12N_VRP_12 (io), L8 IO_L14N_VREF_12 (io), M6 IO_L17P_12 (io), M7 IO_L14P_12 (io), N6 IO_L16N_12 (io), N7 IO_L17N_12 (io), N8 IO_L18P_12 (io), P6 IO_L16P_12 (io), P8 IO_L18N_12 (io), R5 IO_L13N_12 (io), R6 IO_L15P_12 (io), R7 IO_L19N_12 (io), R8 IO_L19P_12 (io), T5 IO_L13P_12 (io), T7 IO_L15N_12 (io), T8 IO_L8N_CC_12 (io), U5 IO_L11N_CC_12 (io), U6 IO_L11P_CC_12 (io), U7 IO_L8P_CC_12 (io), V6 IO_L6P_12 (io), V7 IO_L6N_12 (io), W4 IO_L2N_12 (io), W5 IO_L4P_12 (io), W6 IO_L4N_VREF_12 (io), Y4 IO_L2P_12 (io), Y5 IO_L0N_12 (io), Y6 IO_L0P_12 (io)
part G pins: AA22 IO_L10P_CC_13 (io), AA23 IO_L15N_13 (io), AA24 IO_L14N_VREF_13 (io), AA25 IO_L13P_13 (io), AB24 IO_L15P_13 (io), AB25 IO_L14P_13 (io), AB26 IO_L13N_13 (io), P21 IO_L16P_13 (io), P23 IO_L2N_SM6N_13 (io), P24 IO_L2P_SM6P_13 (io), P25 IO_L1P_SM7P_13 (io), P26 IO_L0P_SM8P_13 (io), R21 IO_L16N_13 (io), R22 IO_L3N_SM5N_13 (io), R23 IO_L3P_SM5P_13 (io), R25 IO_L1N_SM7N_13 (io), R26 IO_L0N_SM8N_13 (io), T22 IO_L17P_13 (io), T23 IO_L6N_SM3N_13 (io), T24 IO_L6P_SM3P_13 (io), T25 IO_L5N_SM4N_13 (io), U21 IO_L18P_13 (io), U22 IO_L17N_13 (io), U24 IO_L7P_SM2P_13 (io), U25 IO_L5P_SM4P_13 (io), U26 IO_L4P_13 (io), V21 IO_L19P_13 (io), V22 IO_L18N_13 (io), V23 IO_L9N_CC_SM0N_13 (io), V24 IO_L7N_SM2N_13 (io), V26 IO_L4N_VREF_13 (io), W21 IO_L19N_13 (io), W23 IO_L11N_CC_13 (io), W24 IO_L9P_CC_SM0P_13 (io), W25 IO_L8N_CC_SM1N_13 (io), W26 IO_L8P_CC_SM1P_13 (io), Y22 IO_L10N_CC_13 (io), Y23 IO_L11P_CC_13 (io), Y25 IO_L12N_VRP_13 (io), Y26 IO_L12P_VRN_13 (io)
part H pins: A13 IO_L1N_15 (io), A14 IO_L2P_15 (io), A15 IO_L2N_15 (io), A17 IO_L5N_15 (io), A18 IO_L6P_15 (io), A19 IO_L6N_15 (io), A20 IO_L8P_CC_15 (io), A22 IO_L13N_15 (io), A23 IO_L14P_15 (io), A24 IO_L14N_VREF_15 (io), A25 IO_L17N_15 (io), B14 IO_L1P_15 (io), B15 IO_L3P_15 (io), B16 IO_L4P_15 (io), B17 IO_L5P_15 (io), B19 IO_L7P_15 (io), B20 IO_L8N_CC_15 (io), B21 IO_L11P_CC_15 (io), B22 IO_L13P_15 (io), B24 IO_L15P_15 (io), B25 IO_L17P_15 (io), B26 IO_L18P_15 (io), C13 IO_L0P_15 (io), C14 IO_L0N_15 (io), C16 IO_L3N_15 (io), C17 IO_L4N_VREF_15 (io), C18 IO_L7N_15 (io), C19 IO_L9P_CC_15 (io), C21 IO_L11N_CC_15 (io), C22 IO_L12N_VRP_15 (io), C23 IO_L15N_15 (io), C24 IO_L16N_15 (io), C26 IO_L18N_15 (io), D19 IO_L9N_CC_15 (io), D20 IO_L10N_CC_15 (io), D21 IO_L10P_CC_15 (io), D23 IO_L12P_VRN_15 (io), D24 IO_L16P_15 (io), D25 IO_L19N_15 (io), D26 IO_L19P_15 (io)
part I pins: A3 IO_L14N_VREF_16 (io), A4 IO_L14P_16 (io), A5 IO_L12N_VRP_16 (io), A7 IO_L10P_CC_16 (io), A8 IO_L4N_VREF_16 (io), A9 IO_L4P_16 (io), A10 IO_L13N_16 (io), A12 IO_L15N_16 (io), B4 IO_L16P_16 (io), B5 IO_L16N_16 (io), B6 IO_L12P_VRN_16 (io), B7 IO_L10N_CC_16 (io), B9 IO_L6P_16 (io), B10 IO_L13P_16 (io), B11 IO_L15P_16 (io), B12 IO_L17P_16 (io), C6 IO_L9N_CC_16 (io), C7 IO_L9P_CC_16 (io), C8 IO_L6N_16 (io), C9 IO_L8P_CC_16 (io), C11 IO_L19P_16 (io), C12 IO_L17N_16 (io), D5 IO_L18P_16 (io), D6 IO_L7N_16 (io), D8 IO_L8N_CC_16 (io), D9 IO_L11P_CC_16 (io), D10 IO_L11N_CC_16 (io), D11 IO_L19N_16 (io), E5 IO_L18N_16 (io), E6 IO_L7P_16 (io), E7 IO_L5N_16 (io), E8 IO_L5P_16 (io), F7 IO_L1P_16 (io), F8 IO_L1N_16 (io), F9 IO_L2P_16 (io), G7 IO_L0N_16 (io), G9 IO_L2N_16 (io), H7 IO_L0P_16 (io), H8 IO_L3P_16 (io), J8 IO_L3N_16 (io)
part J pins: AB22 IO_L7N_17 (io), AC21 IO_L11P_CC_17 (io), AC22 IO_L7P_17 (io), AC23 IO_L6N_17 (io), AC24 IO_L6P_17 (io), AC26 IO_L0P_17 (io), AD13 IO_L19P_17 (io), AD14 IO_L19N_17 (io), AD15 IO_L16P_17 (io), AD16 IO_L15N_17 (io), AD18 IO_L13N_17 (io), AD19 IO_L10P_CC_17 (io), AD20 IO_L10N_CC_17 (io), AD21 IO_L11N_CC_17 (io), AD23 IO_L5N_17 (io), AD24 IO_L1N_17 (io), AD25 IO_L1P_17 (io), AD26 IO_L0N_17 (io), AE13 IO_L18N_17 (io), AE15 IO_L16N_17 (io), AE16 IO_L15P_17 (io), AE17 IO_L14P_17 (io), AE18 IO_L13P_17 (io), AE20 IO_L9N_CC_17 (io), AE21 IO_L8N_CC_17 (io), AE22 IO_L5P_17 (io), AE23 IO_L4N_VREF_17 (io), AE25 IO_L2P_17 (io), AE26 IO_L2N_17 (io), AF13 IO_L18P_17 (io), AF14 IO_L17N_17 (io), AF15 IO_L17P_17 (io), AF17 IO_L14N_VREF_17 (io), AF18 IO_L12N_VRP_17 (io), AF19 IO_L12P_VRN_17 (io), AF20 IO_L9P_CC_17 (io), AF22 IO_L8P_CC_17 (io), AF23 IO_L4P_17 (io), AF24 IO_L3N_17 (io), AF25 IO_L3P_17 (io)
part K pins: AA5 IO_L9P_CC_18 (io), AA7 IO_L7P_18 (io), AA8 IO_L7N_18 (io), AA9 IO_L19N_18 (io), AB5 IO_L9N_CC_18 (io), AB6 IO_L10P_CC_18 (io), AB7 IO_L10N_CC_18 (io), AB9 IO_L19P_18 (io), AC6 IO_L12P_VRN_18 (io), AC7 IO_L16N_18 (io), AC8 IO_L17P_18 (io), AC9 IO_L18N_18 (io), AD4 IO_L14N_VREF_18 (io), AD5 IO_L12N_VRP_18 (io), AD6 IO_L16P_18 (io), AD8 IO_L17N_18 (io), AD9 IO_L18P_18 (io), AD10 IO_L4P_18 (io), AD11 IO_L2N_18 (io), AE5 IO_L14P_18 (io), AE6 IO_L13P_18 (io), AE7 IO_L11N_CC_18 (io), AE8 IO_L11P_CC_18 (io), AE10 IO_L4N_VREF_18 (io), AE11 IO_L2P_18 (io), AE12 IO_L0N_18 (io), AF3 IO_L15N_18 (io), AF4 IO_L15P_18 (io), AF5 IO_L13N_18 (io), AF7 IO_L8P_CC_18 (io), AF8 IO_L8N_CC_18 (io), AF9 IO_L6P_18 (io), AF10 IO_L6N_18 (io), AF12 IO_L0P_18 (io), V8 IO_L1P_18 (io), V9 IO_L1N_18 (io), W8 IO_L3N_18 (io), W9 IO_L3P_18 (io), Y7 IO_L5P_18 (io), Y8 IO_L5N_18 (io)
part L pins: H12 INIT_B_0 (io), J10 D_IN_0 (in), J11 CCLK_0 (io), J20 PROGRAM_B_0 (in), K11 DONE_0 (io), K20 HSWAPEN_0 (in), L20 CS_B_0 (in), M20 RDWR_B_0 (in), N4 FLOAT, R14 DXN_0, R15 DXP_0, T20 M0_0 (in), U12 D_OUT_BUSY_0 (out), U20 M2_0 (in), V11 TCK_0 (in), V12 TDO_0 (out), V13 TDI_0 (in), W13 TMS_0 (in), W20 M1_0 (in)
part M pins: AA1 MGTRXP0_118 (in), AA2 MGTTXN0_118 (out), AB1 MGTRXN0_118 (in), AB3 MGTREFCLKN_118 (in), AB4 MGTREFCLKP_118 (in), AC1 MGTRXN1_118 (in), AD1 MGTRXP1_118 (in), AD2 MGTTXN1_118 (out), AE2 MGTTXP1_118 (out), B2 MGTTXP0_116 (out), C1 MGTRXP0_116 (in), C2 MGTTXN0_116 (out), D1 MGTRXN0_116 (in), D3 MGTREFCLKN_116 (in), D4 MGTREFCLKP_116 (in), E1 MGTRXN1_116 (in), F1 MGTRXP1_116 (in), F2 MGTTXN1_116 (out), G2 MGTTXP1_116 (out), H2 MGTTXP0_112 (out), J1 MGTRXP0_112 (in), J2 MGTTXN0_112 (out), K1 MGTRXN0_112 (in), K3 MGTREFCLKN_112 (in), K4 MGTREFCLKP_112 (in), L1 MGTRXN1_112 (in), M1 MGTRXP1_112 (in), M2 MGTTXN1_112 (out), N2 MGTTXP1_112 (out), P2 MGTTXP0_114 (out), P4 MGTRREF_112, R1 MGTRXP0_114 (in), R2 MGTTXN0_114 (out), T1 MGTRXN0_114 (in), T3 MGTREFCLKN_114 (in), T4 MGTREFCLKP_114 (in), U1 MGTRXN1_114 (in), V1 MGTRXP1_114 (in), V2 MGTTXN1_114 (out), W2 MGTTXP1_114 (out), Y2 MGTTXP0_118 (out)
part N pins: AA3 MGTAVTTRX_118 (power), AA6 VCCO_18 (power), AA16 VCCO_2 (power), AB13 VCCO_4 (power), AB23 VCCO_17 (power), AC3 MGTAVCC_118 (power), AC4 MGTAVCC_118 (power), AC10 VCCO_18 (power), AC20 VCCO_17 (power), AD3 MGTAVCCPLL_118 (power), AD7 VCCO_18 (power), AD17 VCCO_2 (power), AE3 MGTAVTTTX_118 (power), AE14 VCCO_4 (power), AE24 VCCO_17 (power), B3 MGTAVTTTX_116 (power), B13 VCCO_1 (power), B23 VCCO_15 (power), C3 MGTAVTTRX_116 (power), C10 VCCO_16 (power), D7 VCCO_16 (power), D17 VCCO_3 (power), E3 MGTAVCC_116 (power), E4 MGTAVCC_116 (power), E14 VCCO_1 (power), E24 VCCO_15 (power), F3 MGTAVCCPLL_116 (power), F11 VCCO_0 (power), F21 VCCO_15 (power), G3 MGTAVTTTX_116 (power), G8 VCCO_16 (power), G18 VCCO_3 (power), H3 MGTAVTTTX_112 (power), H5 VCCO_12 (power), H15 VCCINT (power), H17 VCCINT (power), H25 VCCO_11 (power), J3 MGTAVTTRX_112 (power), J12 VCCO_0 (power), J14 VCCINT (power), J16 VCCINT (power), J18 VCCINT (power), J19 VBATT_0 (power), J22 VCCO_11 (power), K9 VCCAUX (power), K13 VCCINT (power), K15 VCCINT (power), K17 VCCINT (power), K19 VCCINT (power), L3 MGTAVCC_112 (power), L4 MGTAVCC_112 (power), L6 VCCO_12 (power), L10 VCCINT (power), L12 VCCINT (power), L14 VCCINT (power), L16 VCCINT (power), L18 VCCINT (power), M3 MGTAVCCPLL_112 (power), M9 VCCAUX (power), M11 VCCINT (power), M13 VCCINT (power), M14 AVSS_0 (power), M15 AVDD_0 (power), M17 VCCINT (power), M19 VCCAUX (power), M23 VCCO_11 (power), N3 MGTAVTTTX_112 (power), N10 VCCINT (power), N12 VCCINT (power), N14 VREFN_0 (power), N15 VP_0 (power), N16 VCCINT (power), N18 VCCINT (power), N20 VCCAUX (power), P3 MGTAVTTTX_114 (power), P5 MGTAVTTRXC (power), P7 VCCO_12 (power), P9 VCCAUX (power), P11 VCCINT (power), P13 VCCINT (power), P14 VN_0 (power), P15 VREFP_0 (power), P17 VCCINT (power), P19 VCCAUX (power), R3 MGTAVTTRX_114 (power), R10 VCCINT (power), R12 VCCINT (power), R16 VCCINT (power), R18 VCCINT (power), R24 VCCO_13 (power), T9 VCCAUX (power), T11 VCCINT (power), T13 VCCINT (power), T15 VCCINT (power), T17 VCCINT (power), T19 VCCAUX (power), U3 MGTAVCC_114 (power), U4 MGTAVCC_114 (power), U8 VCCAUX (power), U10 VCCINT (power), U14 VCCINT (power), U16 VCCINT (power), U18 VCCINT (power), V3 MGTAVCCPLL_114 (power), V15 VCCINT (power), V17 VCCINT (power), V19 VCCAUX (power), V25 VCCO_13 (power), W3 MGTAVTTTX_114 (power), W10 VCCAUX (power), W18 VCCINT (power), W22 VCCO_13 (power), Y3 MGTAVTTTX_118 (power), Y19 VCCAUX (power)
part O pins: A2 GND (power), A6 GND (power), A11 GND (power), A16 GND (power), A21 GND (power), A26 GND (power), AA4 GND (power), AA11 GND (power), AA21 GND (power), AA26 GND (power), AB2 GND (power), AB8 GND (power), AB18 GND (power), AC2 GND (power), AC5 GND (power), AC15 GND (power), AC25 GND (power), AD12 GND (power), AD22 GND (power), AE4 GND (power), AE9 GND (power), AE19 GND (power), AF2 GND (power), AF6 GND (power), AF11 GND (power), AF16 GND (power), AF21 GND (power), AF26 GND (power), B8 GND (power), B18 GND (power), C4 GND (power), C5 GND (power), C15 GND (power), C20 GND (power), C25 GND (power), D2 GND (power), D12 GND (power), D22 GND (power), E2 GND (power), E9 GND (power), E19 GND (power), F4 GND (power), F6 GND (power), F16 GND (power), F26 GND (power), G13 GND (power), G23 GND (power), H10 GND (power), H14 GND (power), H16 GND (power), H20 GND (power), J4 GND (power), J7 GND (power), J13 GND (power), J15 GND (power), J17 GND (power), K2 GND (power), K10 GND (power), K12 GND (power), K14 GND (power), K16 GND (power), K18 GND (power), K24 GND (power), L2 GND (power), L9 GND (power), L11 GND (power), L13 GND (power), L15 GND (power), L17 GND (power), L19 GND (power), L21 GND (power), L26 GND (power), M4 GND (power), M8 GND (power), M10 GND (power), M12 GND (power), M16 GND (power), M18 GND (power), N5 GND (power), N9 GND (power), N11 GND (power), N13 GND (power), N17 GND (power), N19 GND (power), N25 GND (power), P10 GND (power), P12 GND (power), P16 GND (power), P18 GND (power), P20 RSVD, P22 GND (power), R4 GND (power), R9 GND (power), R11 GND (power), R13 GND (power), R17 GND (power), R19 GND (power), R20 RSVD, T2 GND (power), T6 GND (power), T10 GND (power), T12 GND (power), T14 GND (power), T16 GND (power), T18 GND (power), T21 GND (power), T26 GND (power), U2 GND (power), U9 GND (power), U11 GND (power), U13 GND (power), U15 GND (power), U17 GND (power), U19 GND (power), U23 GND (power), V4 GND (power), V5 GND (power), V10 GND (power), V14 GND (power), V16 GND (power), V18 GND (power), V20 GND (power), W7 GND (power), W12 GND (power), W15 GND (power), W17 GND (power), W19 GND (power), Y9 GND (power), Y14 GND (power), Y24 GND (power)
part P pins: M5 NC
part A text: BANK 1
part B text: BANK 2
part C text: BANK 3
part D text: BANK 4
part E text: BANK 11
part F text: BANK 12
part G text: BANK 13
part H text: BANK 15
part I text: BANK 16
part J text: BANK 17
part K text: BANK 18

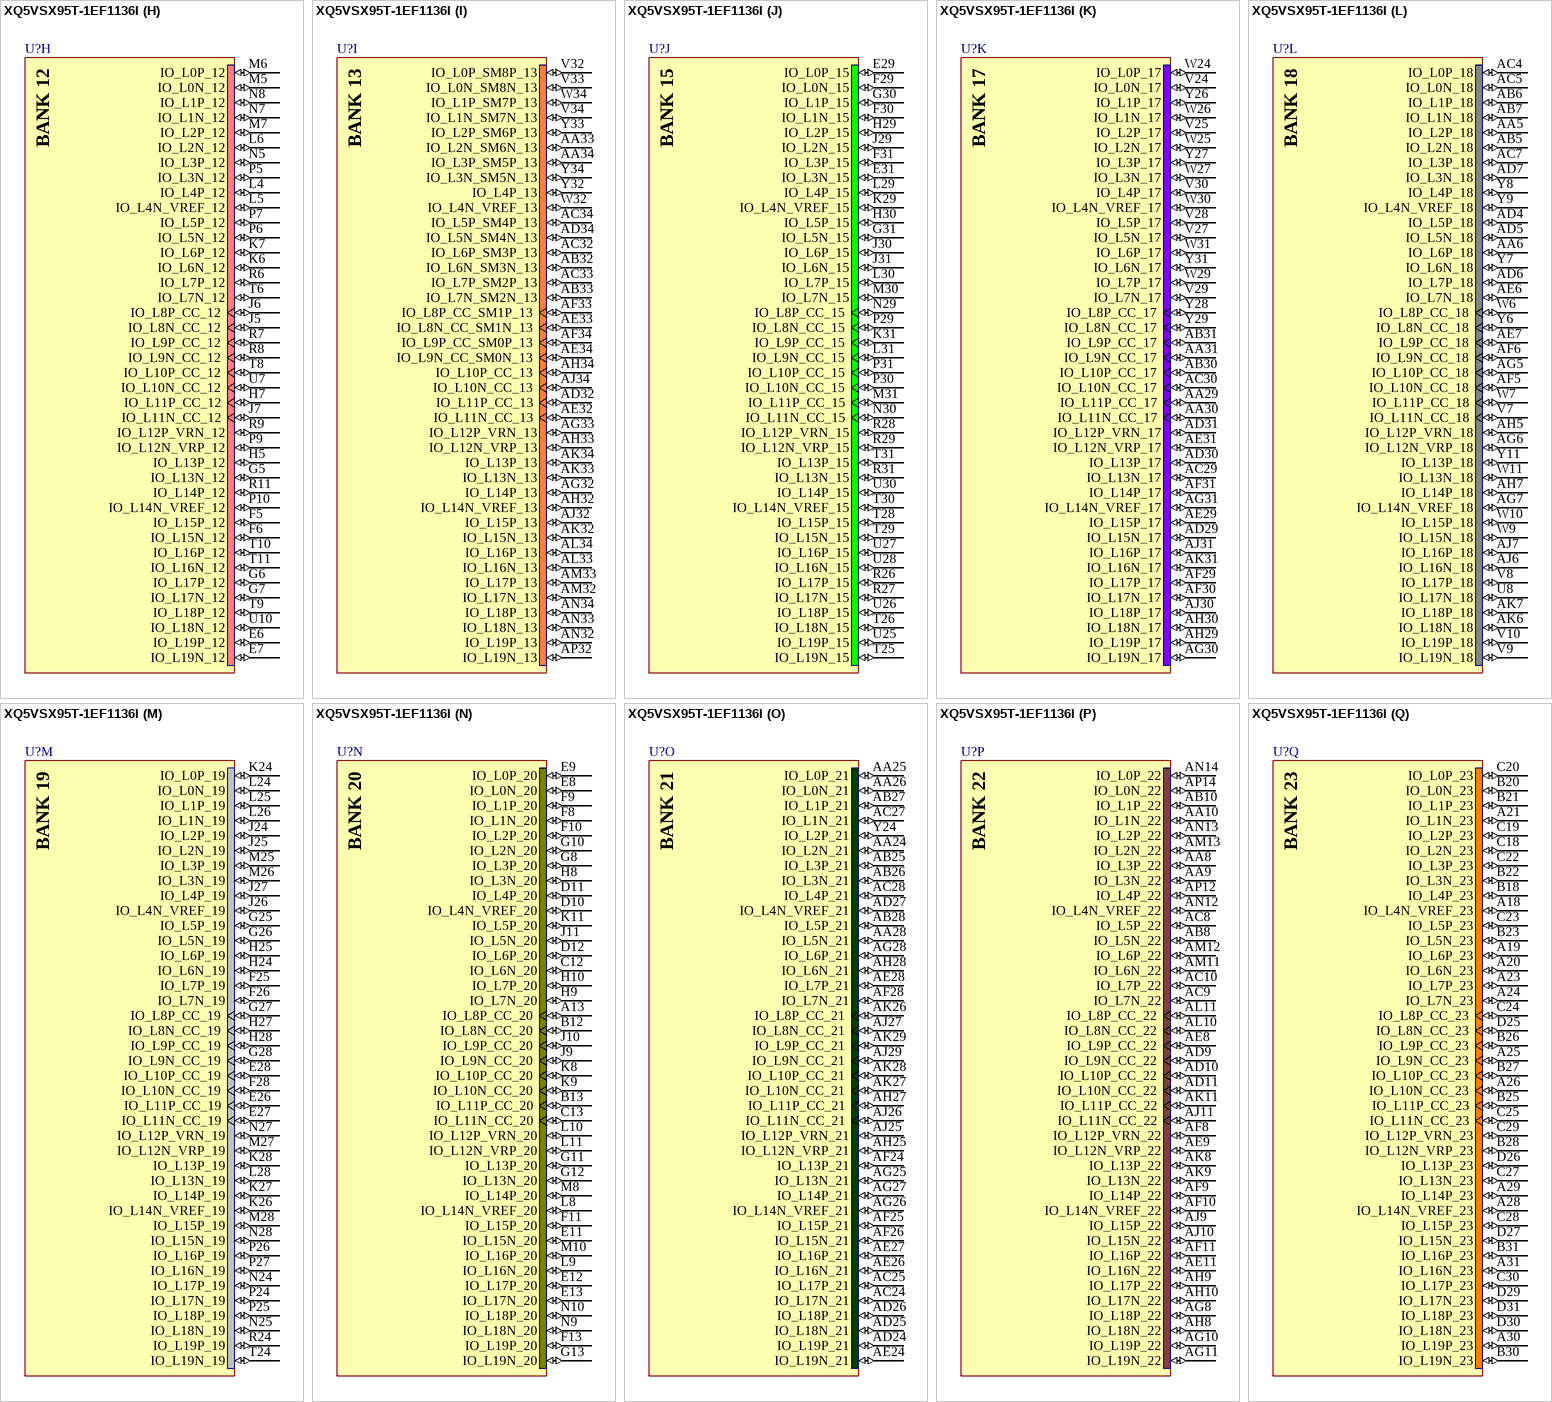
[diagram p141: symbol XQ5VSX95T-1EF1136I]

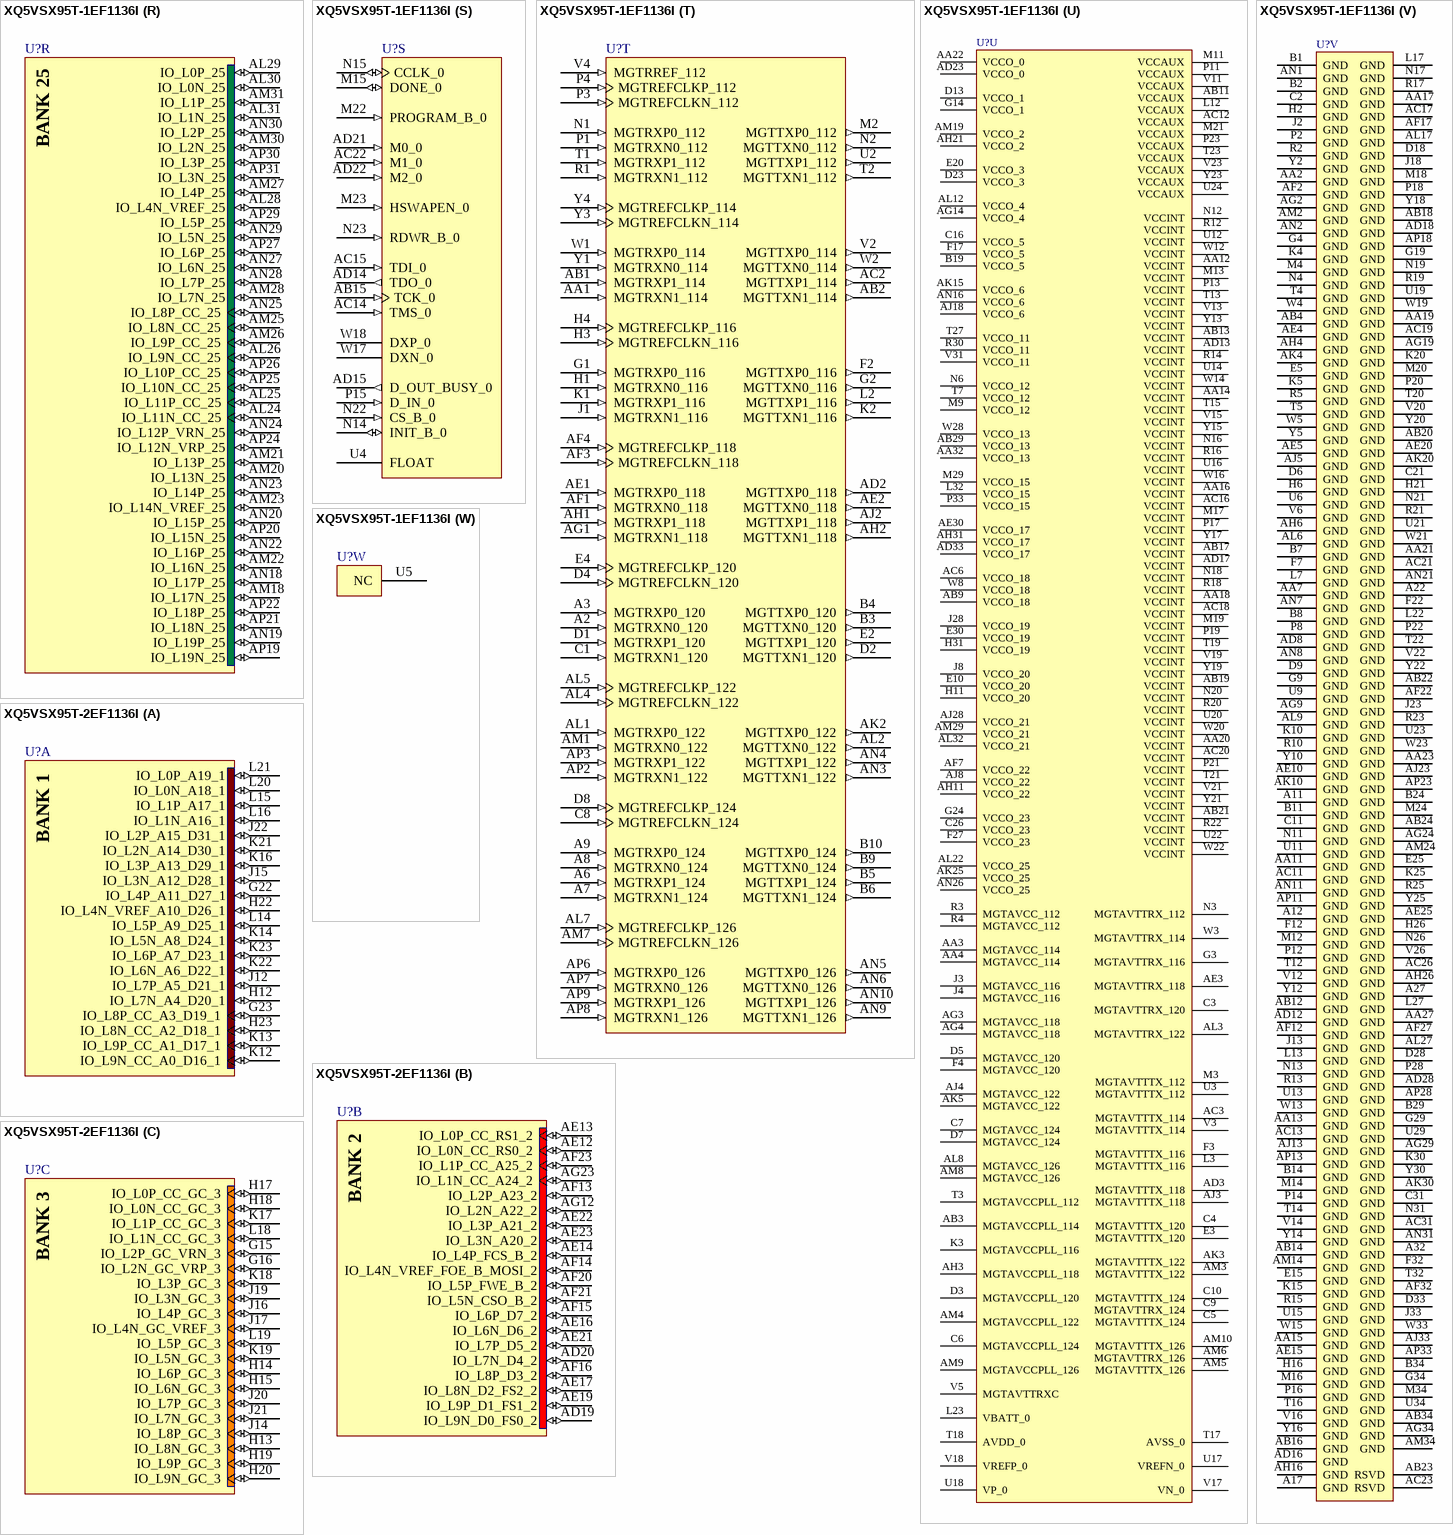
[diagram p142: symbols XQ5VSX95T-1EF1136I to XQ5VSX95T-2EF1136I]